# Altium footprint library CRHT_Passives_PCB.PcbLib: 28 footprints (part 1 of 2)
Each footprint in its own frame and in the unit in brackets; x right, y up, seen from the top. Pads: shape width x height; smd on the part's side, far side on the other; paste and mask are expansions set on the pad; w line width, h text height; cw(c..) or ccw(c..) is an arc to the next point about the centre after c.
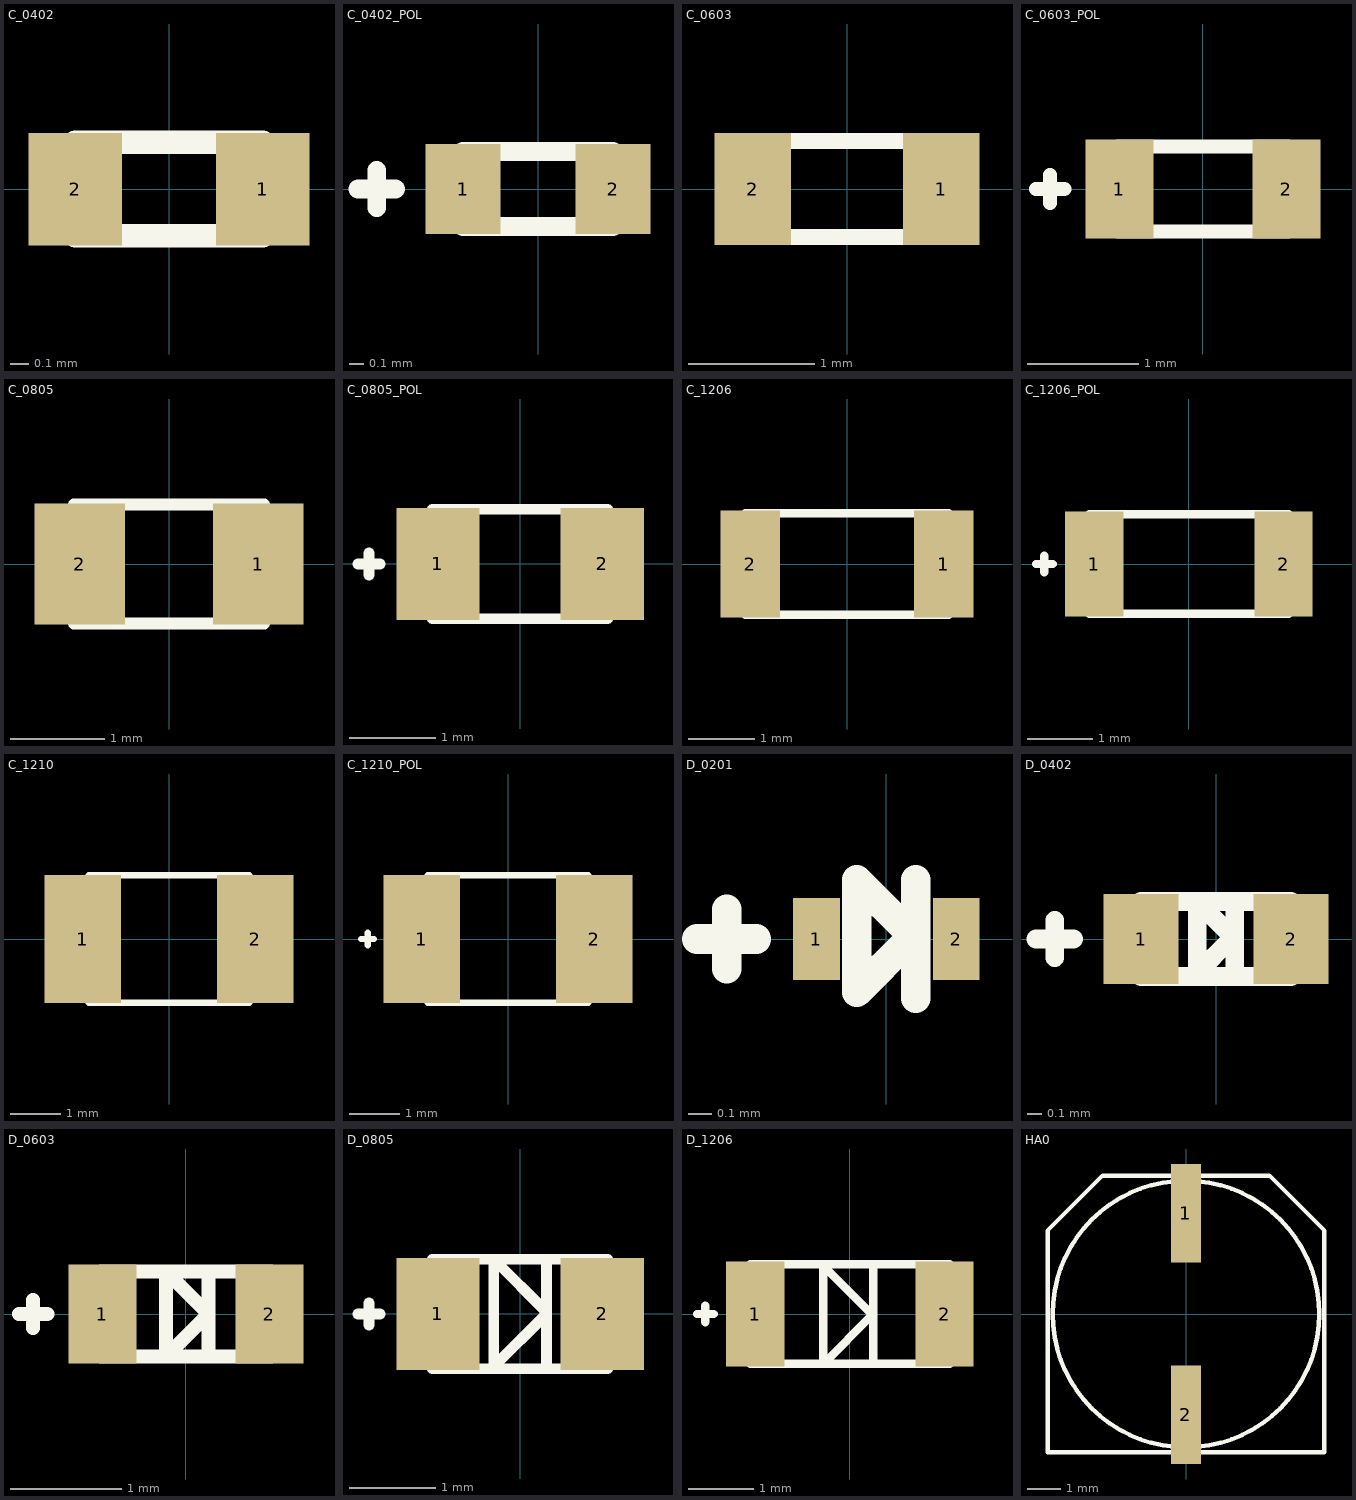
[diagram p0: the footprints below, top view; thin cyan lines are the x and y axes]

## C_0402 [mil]
pads (2):
  rect 20x24 smd: 1(20,0) 2(-20,0)
Top Overlay:
  lines w5: -20,-10 20,-10 20,10 -20,10 -20,-10
3D body "0402_C.STEP": height 19.68, standoff 0, extent -19.69,-9.69 19.69,10

## C_0402_POL [mil]
pads (2):
  rect 20x24 smd: 1(-20,0) 2(20,0)
Top Overlay:
  lines w5: -48,0 -38,0 ; -43,-5 -43,5 ; -20,-10 -20,10 20,10 20,-10 -20,-10
3D body "0402_C.STEP": height 19.68, standoff 0, extent -19.69,-9.69 19.69,10

## C_0603 [mil]
pads (2):
  rect 24x35 smd: 1(29.5,0) 2(-29.5,0)
Top Overlay:
  lines w5: -30,-15 -30,15 30,15 30,-15 -30,-15
3D body "cap 0603.step": height 35.83, standoff -0.39, extent -33.86,-18.22 33.86,18

## C_0603_POL [mil]
pads (2):
  rect 24x35 smd: 1(-29.5,0) 2(29.5,0)
Top Overlay:
  lines w5: -59,0 -49,0 ; -54,-5 -54,5 ; -30,-15 -30,15 30,15 30,-15 -30,-15
3D body "cap 0603.step": height 35.83, standoff -0.39, extent -33.86,-18.22 33.86,18

## C_0805 [mil]
pads (2):
  rect 38x51 smd: 1(37.5,0) 2(-37.5,0)
Top Overlay:
  lines w5: -40,-25 40,-25 40,25 -40,25 -40,-25
3D body "cap 0805-095.step": height 37.4, standoff 0, extent -39.37,-25.21 39.37,24

## C_0805_POL [mil]
pads (2):
  rect 38x51 smd: 1(-37.5,0) 2(37.5,0)
Top Overlay:
  lines w5: -74,0 -64,0 ; -69,-5 -69,5 ; -40,-25 -40,25 40,25 40,-25 -40,-25
3D body "cap 0805-095.step": height 37.4, standoff 0, extent -39.37,-25.21 39.37,24

## C_1206 [mil]
pads (2):
  rect 35x63 smd: 1(57,0) 2(-57,0)
Top Overlay:
  lines w5: -60,-30 -60,30 60,30 60,-30 -60,-30
3D body "cap 1206-160.step": height 62.99, standoff 0, extent -62.99,-30.99 62.99,32

## C_1206_POL [mil]
pads (2):
  rect 35x63 smd: 1(-57,0) 2(57,0)
Top Overlay:
  lines w5: -92,0 -82,0 ; -87,-5 -87,5 ; -60,-30 -60,30 60,30 60,-30 -60,-30
3D body "cap 1206-160.step": height 62.99, standoff 0, extent -62.99,-30.99 62.99,32

## C_1210 [mil]
pads (2):
  rect 60x100 smd: 1(-67.5,0) 2(67.5,0)
Top Overlay:
  lines w5: -63,-50 63,-50 63,50 -63,50 -63,-50
3D body: height 65, standoff 0, extent -63,-50 63,50

## C_1210_POL [mil]
pads (2):
  rect 60x100 smd: 1(-67.5,0) 2(67.5,0)
Top Overlay:
  lines w5: -115,0 -105,0 ; -110,-5 -110,5 ; -63,-50 63,-50 63,50 -63,50 -63,-50
3D body: height 65, standoff 0, extent -63,-50 63,50

## D_0201 [mm]
pads (2):
  rect 0.2x0.35 smd: 1(-0.3,0) 2(0.3,0)
Top Overlay:
  lines w0.127: -0.813,0 -0.559,0 ; -0.686,-0.127 -0.686,0.127 ; 0.127,-0.254 0.127,0.254 ; -0.127,-0.229 -0.127,0.254 0.102,0.025 0.102,0 -0.127,-0.229
3D body "0402_C.STEP": height 0.5, standoff 0, extent -0.5,-0.25 0.5,0.25

## D_0402 [mil]
pads (2):
  rect 20x24 smd: 1(-20,0) 2(20,0)
Top Overlay:
  lines w5: -48,0 -38,0 ; -43,-5 -43,5 ; 5,-10 5,10 ; -20,-10 -20,10 20,10 20,-10 -20,-10 ; -5,-9 -5,10 4,1 4,0 -5,-9
3D body "0402_C.STEP": height 19.68, standoff 0, extent -19.69,-9.69 19.69,10

## D_0603 [mil]
pads (2):
  rect 24x35 smd: 1(-29.5,0) 2(29.5,0)
Top Overlay:
  lines w5: -59,0 -49,0 ; -54,-5 -54,5 ; 8,-15 8,15 ; -30,-15 -30,15 30,15 30,-15 -30,-15 ; -7,-15 8,0 -7,15 -7,-15
3D body "cap 0603.step": height 35.83, standoff -0.39, extent -33.86,-18.22 33.86,18

## D_0805 [mil]
pads (2):
  rect 38x51 smd: 1(-37.5,0) 2(37.5,0)
Top Overlay:
  lines w5: -74,0 -64,0 ; -69,-5 -69,5 ; 12,-25 12,25 ; -40,-25 40,-25 40,25 -40,25 -40,-25 ; -12,-24 -12,25 12,1 12,0 -12,-24
3D body "cap 0805-095.step": height 37.4, standoff 0, extent -39.37,-25.21 39.37,24

## D_1206 [mil]
pads (2):
  rect 35x63 smd: 1(-57,0) 2(57,0)
Top Overlay:
  lines w5: -92,0 -82,0 ; -87,-5 -87,5 ; 13,-1 -16,-30 -16,29 13,0 ; 14,-30 14,30 ; -60,-30 60,-30 60,30 -60,30 -60,-30
3D body "cap 1206-160.step": height 62.99, standoff 0, extent -62.99,-30.99 62.99,32

## HA0 [mm]
height 10
pads (2):
  rect 0.9x2.95 smd: 1(0,3.025) 2(0,-3.025)
Top Overlay:
  circle w0.127: c0,0 r4
  lines w0.127: -4.15,-4.15 -4.15,2.5 -2.5,4.15 2.5,4.15 4.15,2.5 4.15,-4.15 -4.15,-4.15
3D body: height 10, standoff 0, extent -4,-3.997 4,3.997